# EAGLE library part L272D (library ST Microelctronics_By_element14_Batch_1)
DUAL POWER OPERATIONAL AMPLIFIERS
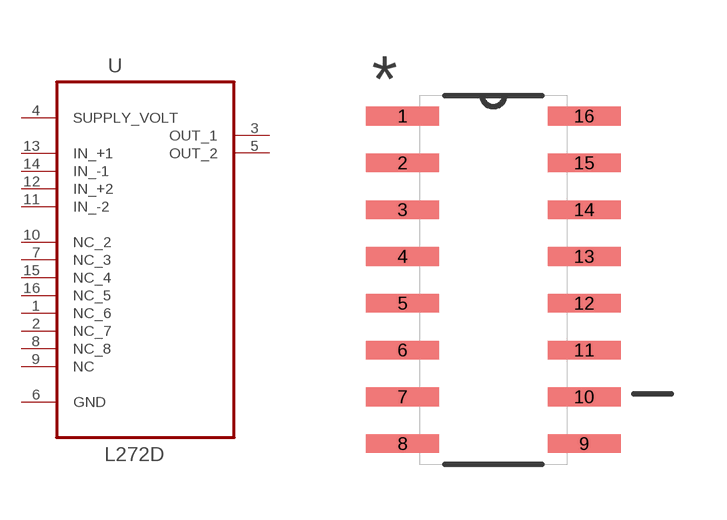
[diagram p29: symbol with the pads of SOIC127P600X175-16N; footprint SOIC127P600X175-16N]

Designator prefix U

## L272D (MPN: L272D; OC_FARNELL: 1842571; OC_NEWARK: 89K0723; PACKAGE: SOIC-16; SUPPLIER: STMICROELECTRONICS)  [SOIC127P600X175-16N]
1  NC_6  nc
2  NC_7  nc
3  OUT_1  out
4  SUPPLY_VOLT  pwr
5  OUT_2  out
6  GND  pas
7  NC_3  nc
8  NC_8  nc
9  NC  nc
10  NC_2  nc
11  IN_-2  in
12  IN_+2  in
13  IN_+1  in
14  IN_-1  in
15  NC_4  nc
16  NC_5  nc

## Footprint SOIC127P600X175-16N (pad centres in mm)
smd 1.981 x 0.508: 1 -2.464,4.445; 2 -2.464,3.175; 3 -2.464,1.905; 4 -2.464,0.635; 5 -2.464,-0.635; 6 -2.464,-1.905; 7 -2.464,-3.175; 8 -2.464,-4.445; 9 2.464,-4.445; 10 2.464,-3.175; 11 2.464,-1.905; 12 2.464,-0.635; 13 2.464,0.635; 14 2.464,1.905; 15 2.464,3.175; 16 2.464,4.445